# Altium schematic symbol library SN75LBC172A16DWR.SchLib: 1 symbol
Pins are listed as number, name and electrical type; pins without a type are passive.

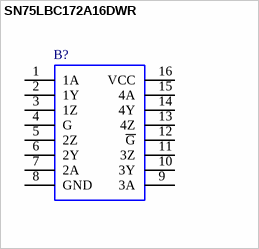
[diagram p0: symbol SN75LBC172A16DWR]

## SN75LBC172A16DWR
designator B?
RS-485 Interface IC Quad RS-485 Diff Line Driver; Manufacturer_Name: Texas Instruments; Geometry.Height: 2.65mm; Manufacturer_Part_Number: SN75LBC172A16DWR; Mouser Part Number: 595-SN75LBC172A16DWR; Mouser Price/Stock: https://www.mouser.com/Search/Refine.aspx?Keyword=595-SN75LBC172A16DWR; Arrow Part Number: SN75LBC172A16DWR; Arrow Price/Stock: https://www.arrow.com/en/products/sn75lbc172a16dwr/texas-instruments; Mouser Testing Part Number: *; Mouser Testing Price/Stock: *; Datasheet Link: https://www.ti.com/lit/gpn/sn75lbc172a
footprint SOIC127P1030X265-16N
pins: 1 1A, 2 1Y, 3 1Z, 4 G, 5 2Z, 6 2Y, 7 2A, 8 GND, 9 3A, 10 3Y, 11 3Z, 12 ~{G}, 13 4Z, 14 4Y, 15 4A, 16 VCC